# EAGLE library part 19428-0003 (library con-molex-mx150l)
5.84mm Pitch MX150L Vertical PCB Header, Dual Row, Standard Profile, 8 Circuits
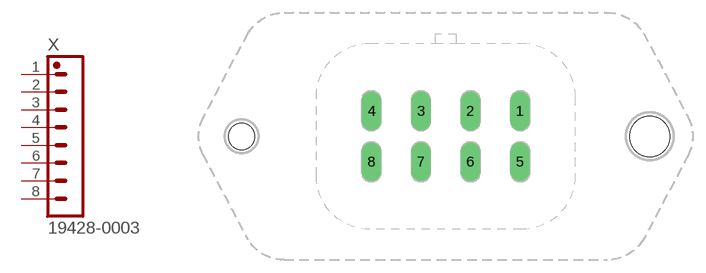
[diagram p1: symbol with the pads of 19428_8POS; footprint 19428_8POS]

Designator prefix X

## 19428-0003 (MFG: Molex; MPN: 19428-0003; VALUE: MX150L)  [19428_8POS]
1  1  pas
2  2  pas
3  3  pas
4  4  pas
5  5  pas
6  6  pas
7  7  pas
8  8  pas

## Footprint 19428_8POS (pad centres in mm)
drill 1.524 long: 1 8.763,2.997; 2 2.921,2.997; 3 -2.921,2.997; 4 -8.763,2.997; 5 8.763,-2.997; 6 2.921,-2.997; 7 -2.921,-2.997; 8 -8.763,-2.997
hole 4.775 at 24.13,0
hole 3.124 at -24.13,0